# Altium footprint library PcbLib1.PcbLib: 7 footprints
Each footprint in its own frame and in the unit in brackets; x right, y up, seen from the top. Pads: shape width x height; smd on the part's side, far side on the other; paste and mask are expansions set on the pad; w line width, h text height; cw(c..) or ccw(c..) is an arc to the next point about the centre after c.
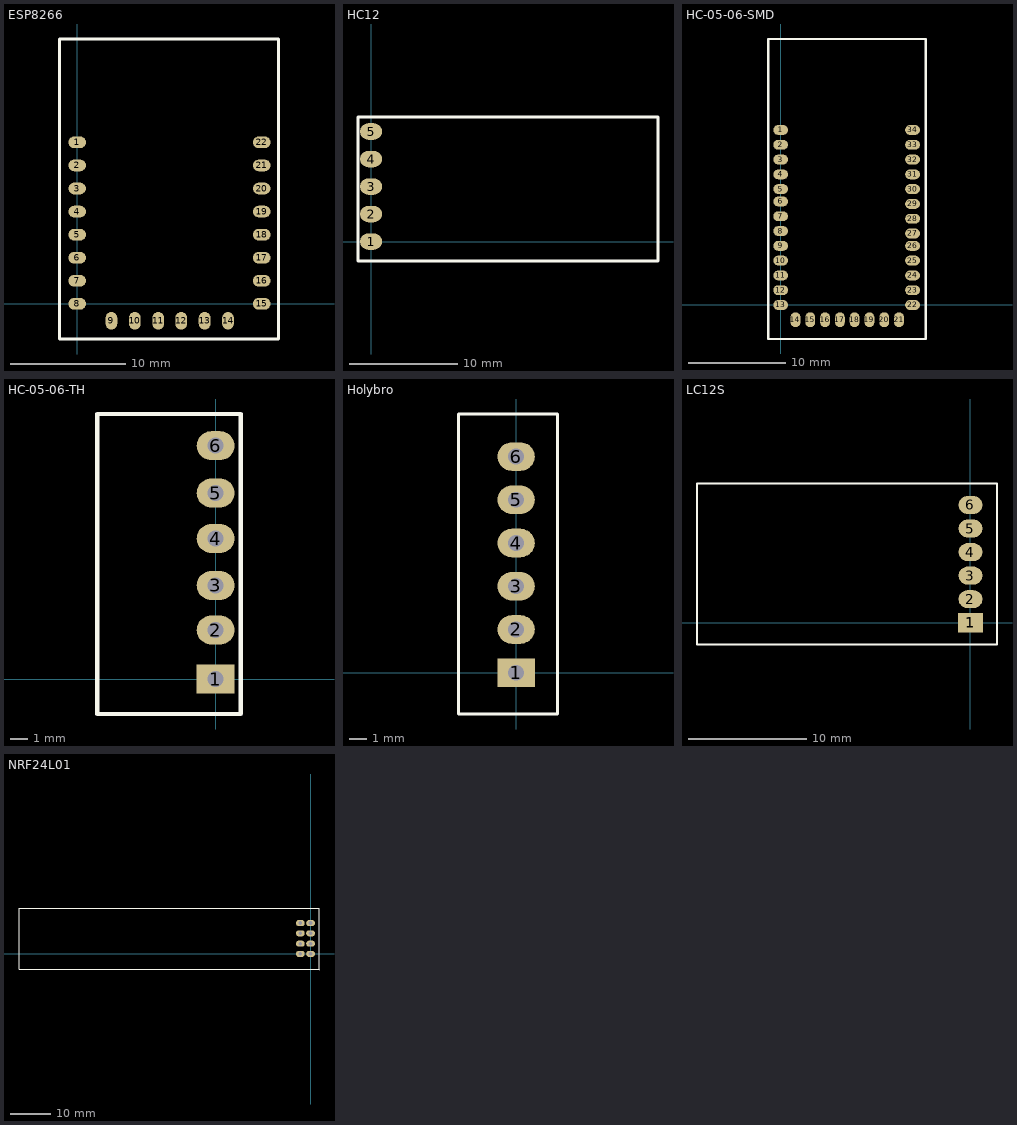
[diagram p0: the footprints below, top view; thin cyan lines are the x and y axes]

## ESP8266 [mil]
pads (22):
  oval 60x40 smd: 1(0,551.18) 2(0,472.44) 3(0,393.7) 4(0,314.96) 5(0,236.22) 6(0,157.48) 7(0,78.74) 8(0,0) 15(629.92,0) 16(629.92,78.74) 17(629.92,157.48) 18(629.92,236.22) 19(629.92,314.96) 20(629.92,393.7) 21(629.92,472.44) 22(629.92,551.18)
  oval 40x60 smd: 9(117,-58) 10(197,-58) 11(277,-58) 12(355,-58) 13(435,-58) 14(515,-58)
Top Overlay:
  lines w10: -60,-120 687,-120 687,904 -60,904 -60,-120
3D body "EPS8266 ESP-12F.STEP": height 104.33, standoff -1.38, extent 0.84,-60 631.16,885.08

## HC12 [mil]
pads (5):
  oval 80x60 smd: 1(0,0) 2(0,100) 3(0,200) 4(0,300) 5(0,400)
Top Overlay:
  lines w10: -47.34,-70.8 1043.12,-70.8 1043.12,452.82 -47.34,452.82 -47.34,-70.8
3D body "HC-12 SI4463 WIRELESS SERIAL MODULE.STEP": height 1024.68, standoff 5, extent -47.34,-70.8 1043.12,452.82

## HC-05-06-SMD [mil]
pads (34):
  oval 60x40 smd: 1(0,710) 2(0,650) 3(0,590) 4(0,530) 5(0,470) 6(0,420) 7(0,360) 8(0,300) 9(0,240) 10(0,180) 11(0,120) 12(0,60) 13(0,0) 22(535,0) 23(535,60) 24(535,120) 25(535,180) 26(535,240) 27(535,290) 28(535,350) 29(535,410) 30(535,470) 31(535,530) 32(535,590) 33(535,650) 34(535,710)
  oval 40x60 smd: 14(60,-60) 15(120,-60) 16(180,-60) 17(240,-60) 18(300,-60) 19(360,-60) 20(420,-60) 21(480,-60)
Top Overlay:
  lines w10: 588,-138 -50,-138 -50,1079 588,1079 588,-138 ; 588,-138 588,-138
3D body "Bluetooth HC-06_.STEP": height 92.52, standoff 0, extent -8.98,-68 542.98,1034.76

## HC-05-06-TH [mil]
pads (6):
  rect 85x65 hole 36: 1(0,0)
  oval 85x65 hole 36: 2(0,110) 3(0,210) 4(0,315) 5(0,417) 6(0,523)
Top Overlay:
  lines w10: -265,-78 -265,-76 -265,594 56,594 56,-77 55,-78 -265,-78
3D body "HC-05.STEP": height 1628.35, standoff -48.16, extent -242,-48.96 15.87,580.96

## Holybro [mil]
pads (6):
  rect 85x65 hole 36: 1(0,0)
  oval 85x65 hole 36: 2(0,98.43) 3(0,196.85) 4(0,295.28) 5(0,393.7) 6(0,492.13)
Top Overlay:
  lines w7: -131,-94 -131,589 94,589 94,-94 -131,-94
3D body "JST - XH - Thru (V) - 6Pin - 2.54mm.stp": height 284, standoff -118, extent -134,-96 96,588

## LC12S [mil]
pads (6):
  rect 85x65 smd: 1(0,0)
  oval 80x60 smd: 2(0,78.74) 3(0,157.48) 4(0,236.22) 5(0,314.96) 6(0,393.7)
Top Overlay:
  lines w7: -914.49,-73.3 -914.49,466.08 88.74,466.08 88.74,-73.3 -914.49,-73.3
3D body "LC12S.STEP": height 86.61, standoff 7.87, extent -914.49,-73.3 2.84,466.08
3D body: height 78.74, standoff 0, extent -157.48,-236.22 -157.48,-236.22

## NRF24L01 [mil]
pads (8):
  oval 86x60 hole 36: 1(0,0) 2(-100,0) 3(0,100) 4(-100,100) 5(0,200) 6(-100,200) 7(0,300) 8(-100,300)
Top Overlay:
  lines w10: -2840,445 -2840,-152 78.8,-152 82,-155.2 82,445.2 -2831.39,445.2
3D body "NRF24l01_with_antenna.STEP": height 3660.96, standoff -224.41, extent -2831.39,-155.2 82,445.2